# EAGLE library part EHF-120-01-L-D-SM (library SAMTEC_EHF_By_element14_Batch_1)
CONN .050 EJECTOR HEADER ASSEMBLY , 40WAY
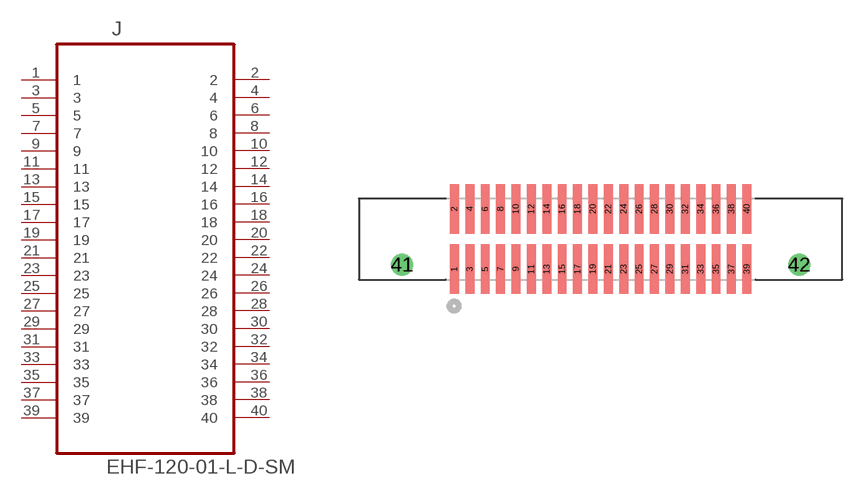
[diagram p2: symbol with the pads of SAMTEC_EHF-120-01-L-D-SM; footprint SAMTEC_EHF-120-01-L-D-SM]

Designator prefix J

## EHF-120-01-L-D-SM (MPN: EHF-120-01-L-D-SM; OC_FARNELL: 1667615; OC_NEWARK: 11P4259; PACKAGE: .050 EJECTOR HEADER ASSEMBLY; SUPPLIER: SAMTEC)  [SAMTEC_EHF-120-01-L-D-SM]
1  1  pas
2  2  pas
3  3  pas
4  4  pas
5  5  pas
6  6  pas
7  7  pas
8  8  pas
9  9  pas
10  10  pas
11  11  pas
12  12  pas
13  13  pas
14  14  pas
15  15  pas
16  16  pas
17  17  pas
18  18  pas
19  19  pas
20  20  pas
21  21  pas
22  22  pas
23  23  pas
24  24  pas
25  25  pas
26  26  pas
27  27  pas
28  28  pas
29  29  pas
30  30  pas
31  31  pas
32  32  pas
33  33  pas
34  34  pas
35  35  pas
36  36  pas
37  37  pas
38  38  pas
39  39  pas
40  40  pas

## Footprint SAMTEC_EHF-120-01-L-D-SM (pad centres in mm)
smd 0.737 x 4.089: 1 -24.13,-4.953; 2 -24.13,0; 3 -22.86,-4.953; 4 -22.86,0; 5 -21.59,-4.953; 6 -21.59,0; 7 -20.32,-4.953; 8 -20.32,0; 9 -19.05,-4.953; 10 -19.05,0; 11 -17.78,-4.953; 12 -17.78,0; 13 -16.51,-4.953; 14 -16.51,0; 15 -15.24,-4.953; 16 -15.24,0; 17 -13.97,-4.953; 18 -13.97,0; 19 -12.7,-4.953; 20 -12.7,0; 21 -11.43,-4.953; 22 -11.43,0; 23 -10.16,-4.953; 24 -10.16,0; 25 -8.89,-4.953; 26 -8.89,0; 27 -7.62,-4.953; 28 -7.62,0; 29 -6.35,-4.953; 30 -6.35,0; 31 -5.08,-4.953; 32 -5.08,0; 33 -3.81,-4.953; 34 -3.81,0; 35 -2.54,-4.953; 36 -2.54,0; 37 -1.27,-4.953; 38 -1.27,0; 39 0,-4.953; 40 0,0
drill 1.194: 41 -28.448,-4.597; 42 4.318,-4.597